# Altium footprint library Battery circuit PCB.PcbLib: 27 footprints (part 1 of 2)
Each footprint in its own frame and in the unit in brackets; x right, y up, seen from the top. Pads: shape width x height; smd on the part's side, far side on the other; paste and mask are expansions set on the pad; w line width, h text height; cw(c..) or ccw(c..) is an arc to the next point about the centre after c.
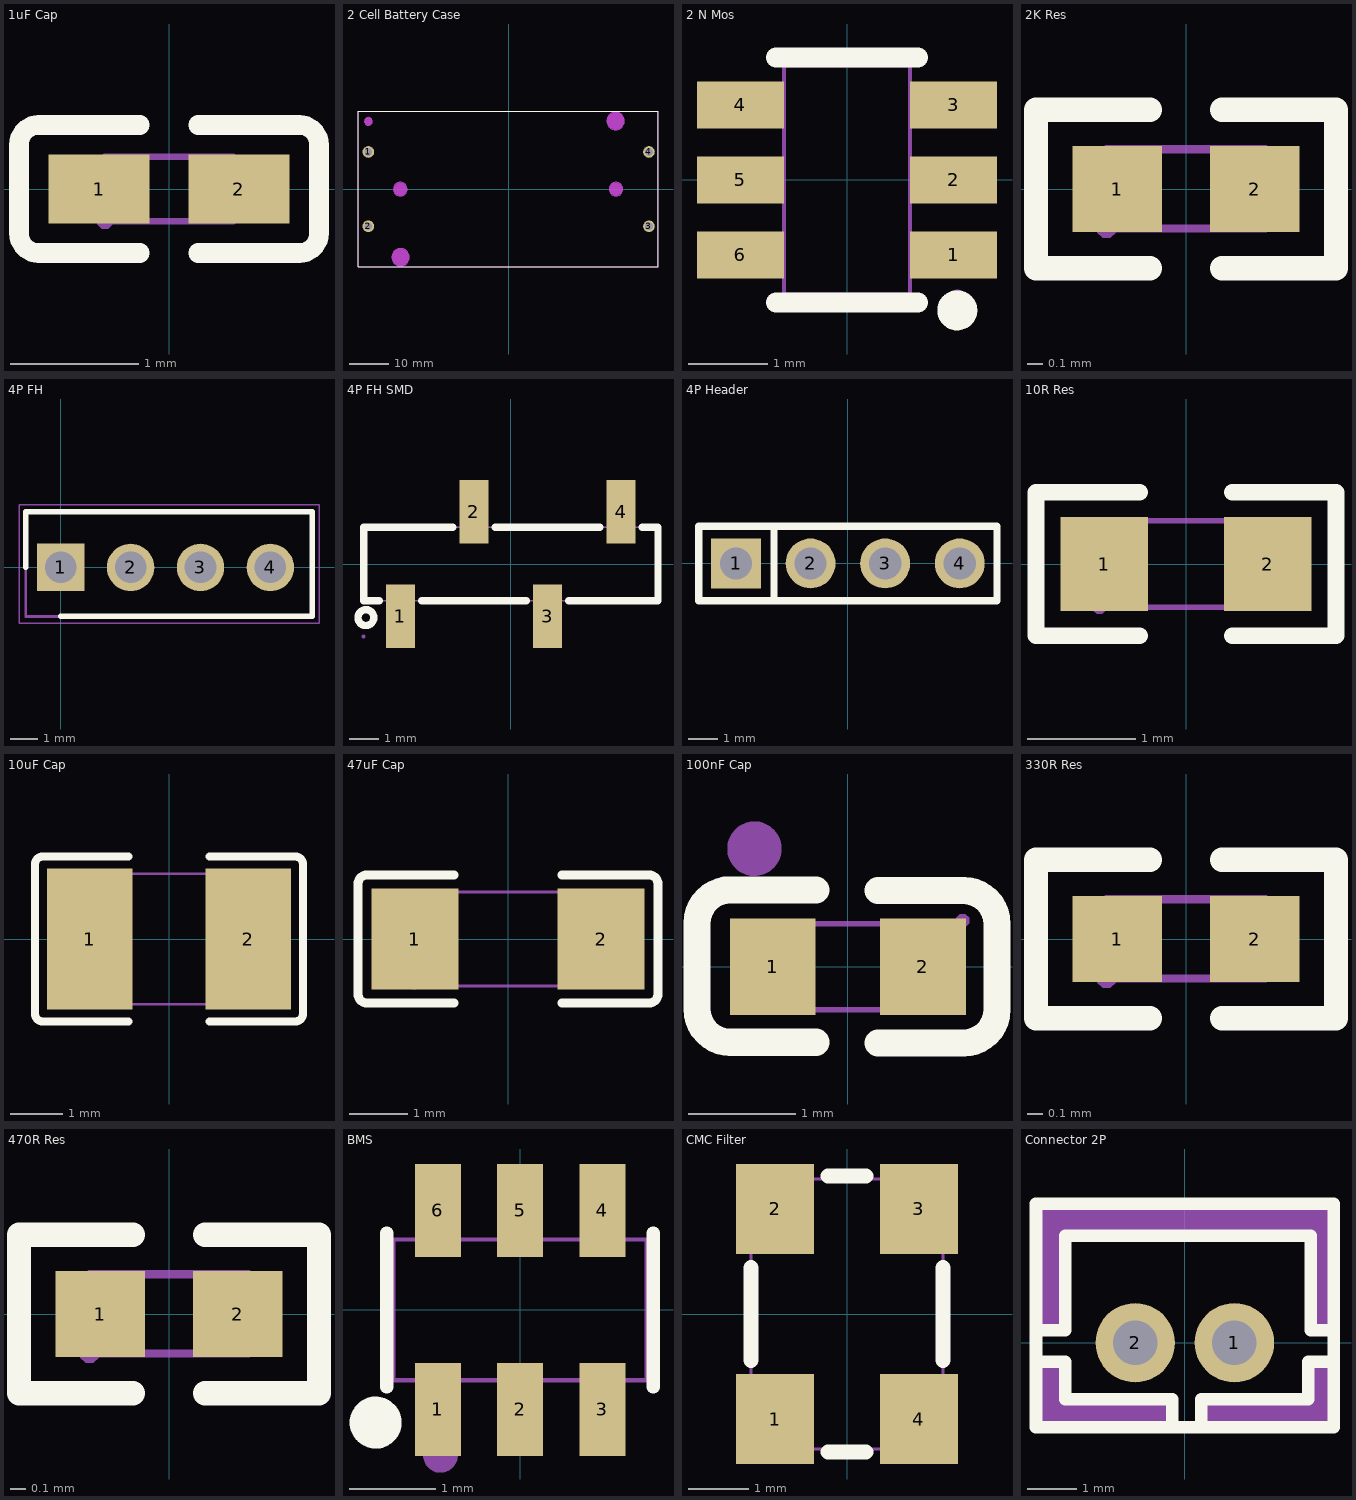
[diagram p0: the footprints below, top view; thin cyan lines are the x and y axes]

## 1uF Cap [mm]
pads (2):
  rect 0.79x0.54 smd paste-100 mask+0.051: 1(-0.545,0) 2(0.545,0)
Top Overlay:
  lines w0.152: -0.226,-0.499 -1.016,-0.499 cw(c-1.016,-0.346) -1.169,-0.346 -1.169,0.346 cw(c-1.016,0.346) -1.016,0.499 -0.226,0.499 ; 0.226,-0.499 1.016,-0.499 ccw(c1.016,-0.346) 1.169,-0.346 1.169,0.346 ccw(c1.016,0.346) 1.016,0.499 0.226,0.499
Top Paste:
  region: 0.78,0.225 0.78,-0.225 0.73,-0.275 0.25,-0.275 0.18,-0.225 0.18,0.225 0.25,0.275 0.73,0.275
  region: -0.18,0.225 -0.18,-0.225 -0.25,-0.275 -0.73,-0.275 -0.78,-0.225 -0.78,0.225 -0.73,0.275 -0.25,0.275
Mechanical 15:
  region: 0.5,-0.25 0.5,0.25 0.25,0.25 0.25,-0.25
  region: -0.5,-0.25 -0.5,0.25 -0.25,0.25 -0.25,-0.25
  region: -0.44,-0.25 -0.44,-0.225 -0.475,-0.19 -0.525,-0.19 -0.56,-0.225 -0.56,-0.25 -0.56,-0.275 -0.525,-0.31 -0.475,-0.31 -0.44,-0.275
  lines w0.051: -0.5,-0.25 0.5,-0.25 0.5,0.25 -0.5,0.25 -0.5,-0.25
3D body "Cap 1uF.step": height 0.25, standoff -0.25, extent -0.5,-0.296 0.5,0.254

## 2 Cell Battery Case [mm]
pads (4):
  round 3 hole 2: 1(-36.037,9.55) 2(-36.037,-9.55) 3(36.037,-9.55) 4(36.037,9.55)
Top Overlay:
  lines w0.254: -38.637,-19.95 38.363,-19.95 38.363,19.95 -38.637,19.95 -38.637,-19.95
Keep-Out Layer:
  drawing of 5 lines, arcs and shapes, not listed
Mechanical 1:
  circle w0.025: c-36.037,17.4 r1
  circle w0.025: c-27.737,-17.5 r2.25
  circle w0.025: c27.462,17.5 r2.25
  circle w0.025: c-27.838,0 r1.75
  circle w0.025: c27.562,0 r1.75
Mechanical 6:
  circle w0.9: c-36.037,17.4 r0.45
  circle w1.6: c-27.838,0 r0.8
  circle w1.6: c27.562,0 r0.8
  circle w2.15: c27.462,17.5 r1.075
  circle w2.15: c-27.738,-17.5 r1.075
Mechanical 15:
  region: -38.577,19.95 -38.577,19.975 -38.612,20.01 -38.662,20.01 -38.697,19.975 -38.697,19.95 -38.697,19.925 -38.662,19.89 -38.613,19.89 -38.577,19.925
  region: -36.187,-9.05 -35.887,-9.05 -35.887,-10.05 -36.187,-10.05
  region: -36.187,10.05 -35.887,10.05 -35.887,9.05 -36.187,9.05
  region: 35.887,10.05 36.187,10.05 36.187,9.05 35.887,9.05
  region: 35.887,-9.05 36.187,-9.05 36.187,-10.05 35.887,-10.05
  lines w0.051: -38.637,-19.95 38.362,-19.95 38.362,19.95 -38.637,19.95 -38.637,-19.95
Multi-Layer keep-out:
  circle w0.254: c-36.037,17.4 r1
  circle w0.254: c-27.737,-17.5 r2.25
  circle w0.254: c27.462,17.5 r2.25
  circle w0.254: c-27.838,0 r1.75
  circle w0.254: c27.562,0 r1.75
3D body "Hold_18650-1p_smd_WITH_BAT.step": height 17.97, standoff -2.79, extent -42.712,-21.068 43.728,-0.268
3D body "Hold_18650-1p_smd_WITH_BAT.step": height 17.97, standoff -2.79, extent -42.712,0.522 43.728,21.322

## 2 N Mos [mm]
pads (6):
  rect 1.1x0.6 smd paste+0 mask+0.051: 1(1.35,-0.95) 2(1.35,0) 3(1.35,0.95) 4(-1.35,0.95) 5(-1.35,0) 6(-1.35,-0.95)
Top Overlay:
  circle w0.254: c1.397,-1.651 r0.127
  lines w0.254: -0.9,-1.55 0.9,-1.55 ; -0.9,1.55 0.9,1.55
Mechanical 6:
  circle w0.2: c1.4,-0.95 r0.1
Mechanical 15:
  region: 1.46,-1.45 1.46,-1.425 1.425,-1.39 1.375,-1.39 1.34,-1.425 1.34,-1.45 1.34,-1.475 1.375,-1.51 1.425,-1.51 1.46,-1.475
  region: -0.925,-1.165 -0.925,-0.735 -1.4,-0.735 -1.4,-1.165
  region: -0.925,-0.215 -0.925,0.215 -1.4,0.215 -1.4,-0.215
  region: -0.925,0.735 -0.925,1.165 -1.4,1.165 -1.4,0.735
  region: -0.935,0.735 -0.935,1.165 -0.79,1.165 -0.79,0.735
  region: 0.925,0.735 0.925,1.165 1.4,1.165 1.4,0.735
  region: 0.925,-0.215 0.925,0.215 1.4,0.215 1.4,-0.215
  region: 0.925,-1.165 0.925,-0.735 1.4,-0.735 1.4,-1.165
  region: -0.935,-0.215 -0.935,0.215 -0.79,0.215 -0.79,-0.215
  region: -0.935,-1.165 -0.935,-0.735 -0.79,-0.735 -0.79,-1.165
  region: 0.935,-0.735 0.935,-1.165 0.79,-1.165 0.79,-0.735
  region: 0.935,0.215 0.935,-0.215 0.79,-0.215 0.79,0.215
  region: 0.935,1.165 0.935,0.735 0.79,0.735 0.79,1.165
  lines w0.051: -0.8,-1.45 -0.8,1.45 0.8,1.45 0.8,-1.45 -0.8,-1.45
3D body "2N Mos.STEP": height 1.45, standoff 0, extent -1.273,-1.45 1.527,1.45

## 2K Res [mm]
pads (2):
  rect 0.566x0.54 smd paste-100 mask+0.051: 1(-0.433,0) 2(0.433,0)
Top Overlay:
  lines w0.152: -0.226,-0.499 -0.944,-0.499 -0.944,0.499 -0.226,0.499 ; 0.226,-0.499 0.944,-0.499 0.944,0.499 0.226,0.499
Top Paste:
  region: -0.135,-0.23 -0.135,0.23 -0.175,0.27 -0.676,0.27 -0.716,0.23 -0.716,-0.23 -0.676,-0.27 -0.175,-0.27
  region: 0.135,-0.23 0.135,0.23 0.175,0.27 0.676,0.27 0.716,0.23 0.716,-0.23 0.676,-0.27 0.175,-0.27
Mechanical 15:
  region: -0.249,0.25 -0.249,-0.25 -0.499,-0.25 -0.499,0.25
  region: 0.251,-0.25 0.251,0.25 0.501,0.25 0.501,-0.25
  region: -0.44,-0.25 -0.441,-0.226 -0.476,-0.192 -0.524,-0.192 -0.559,-0.226 -0.56,-0.25 -0.559,-0.274 -0.524,-0.308 -0.476,-0.308 -0.441,-0.274
  lines w0.051: -0.5,-0.25 0.5,-0.25 0.5,0.25 -0.5,0.25 -0.5,-0.25
3D body "Res 2K.step": height 0.4, standoff 0, extent -0.5,-0.254 0.5,0.246

## 4P FH [mm]
pads (4):
  rect 1.725x1.725 / inner round 1.725 / far side rect 1.725x1.725 hole 1.15: 1(0,0)
  round 1.725 hole 1.15: 2(2.54,0) 3(5.08,0) 4(7.62,0)
Top Overlay:
  lines w0.2: -1.27,0 -1.27,2.03 9.14,2.03 9.14,-1.78 0,-1.78
Mechanical 15:
  lines w0.1: -1.27,-1.78 -1.27,2.03 9.14,2.03 9.14,-1.78 -1.27,-1.78
Mechanical 20:
  lines w0.05: -1.52,-2.03 -1.52,2.28 9.39,2.28 9.39,-2.03 -1.52,-2.03
3D body "1x4 Male Pin Header.STEP": height 10.54, standoff -3, extent -1.275,-1.25 8.89,1.25

## 4P FH SMD [mm]
pads (4):
  rect 1x2.2 smd: 1(-3.81,-1.8) 2(-1.27,1.8) 3(1.27,-1.8) 4(3.81,1.8)
Top Overlay:
  circle w0.254: c-5,-1.85 r0.273
  lines w0.254: -4.541,-1.27 -5.08,-1.27 -5.08,1.27 -2.001,1.27 ; -3.079,-1.27 0.539,-1.27 ; -0.539,1.27 3.079,1.27 ; 2.001,-1.27 5.08,-1.27 5.08,1.27 4.541,1.27
Mechanical 15:
  region: -5.02,-2.5 -5.021,-2.476 -5.055,-2.441 -5.104,-2.441 -5.139,-2.475 -5.14,-2.5 -5.139,-2.524 -5.105,-2.559 -5.056,-2.559 -5.021,-2.524
  region: 3.49,1.04 4.13,1.04 4.13,2.54 3.49,2.54
  region: 0.95,-2.54 1.59,-2.54 1.59,-1.04 0.95,-1.04
  region: -1.59,1.04 -0.95,1.04 -0.95,2.54 -1.59,2.54
  region: -4.13,-2.54 -3.49,-2.54 -3.49,-1.04 -4.13,-1.04
  lines w0.051: -5.08,-1.27 -5.08,1.27 5.08,1.27 5.08,-1.27 -5.08,-1.27
3D body "4P FH SMD.step": height 12.19, standoff -0.46, extent -9.449,-3.785 9.347,3.581

## 4P Header [mm]
pads (4):
  rect 1.7x1.7 hole 1.1 paste-2539.97 mask+0.051: 1(-3.81,0)
  round 1.7 hole 1.1 paste-2539.97 mask+0.051: 2(-1.27,0) 3(1.27,0) 4(3.81,0)
Top Overlay:
  lines w0.254: -2.516,-1.27 -2.516,1.27 ; -2.516,1.27 -5.08,1.27 -5.08,-1.27 5.08,-1.27 5.08,1.27 -2.516,1.27
Mechanical 15:
  region: 3.49,0.32 4.13,0.32 4.13,-0.32 3.49,-0.32
  region: 0.95,0.32 1.59,0.32 1.59,-0.32 0.95,-0.32
  region: -1.59,0.32 -0.95,0.32 -0.95,-0.32 -1.59,-0.32
  region: -4.13,0.32 -3.49,0.32 -3.49,-0.32 -4.13,-0.32
  region: -5.02,-1.25 -5.02,-1.225 -5.055,-1.19 -5.105,-1.19 -5.14,-1.225 -5.14,-1.25 -5.14,-1.275 -5.105,-1.31 -5.055,-1.31 -5.02,-1.275
  lines w0.051: -5.08,-1.25 5.08,-1.25 5.08,1.25 -5.08,1.25 -5.08,-1.25
3D body "1x4 Male Pin Header.STEP": height 10.54, standoff -3, extent -5.006,-1.255 5.159,1.245

## 10R Res [mm]
pads (2):
  rect 0.806x0.864 smd paste-100 mask+0.051: 1(-0.753,0) 2(0.753,0)
Top Overlay:
  lines w0.152: -0.426,-0.661 -1.385,-0.661 -1.385,0.661 -0.426,0.661 ; 0.426,-0.661 1.385,-0.661 1.385,0.661 0.426,0.661
Top Paste:
  region: -1.195,-0.45 -0.395,-0.45 -0.345,-0.4 -0.345,-0.172 -0.715,-0.172 -0.715,0.158 -0.345,0.158 -0.345,0.4 -0.395,0.45 -1.195,0.45 -1.245,0.4 -1.245,-0.4
  region: 1.195,0.45 0.395,0.45 0.345,0.4 0.345,0.172 0.715,0.172 0.715,-0.158 0.345,-0.158 0.345,-0.4 0.395,-0.45 1.195,-0.45 1.245,-0.4 1.245,0.4
Mechanical 15:
  region: 0.8,-0.4 0.8,0.4 0.5,0.4 0.5,-0.4
  region: -0.8,-0.4 -0.8,0.4 -0.5,0.4 -0.5,-0.4
  region: -0.74,-0.4 -0.74,-0.375 -0.775,-0.34 -0.825,-0.34 -0.86,-0.375 -0.86,-0.4 -0.86,-0.425 -0.825,-0.46 -0.775,-0.46 -0.74,-0.425
  lines w0.051: -0.8,-0.4 0.8,-0.4 0.8,0.4 -0.8,0.4 -0.8,-0.4
3D body "Res 603.STEP": height 0.55, standoff 0, extent -0.8,-0.4 0.8,0.4

## 10uF Cap [mm]
pads (2):
  rect 1.635x2.7 smd paste-100 mask+0.051: 1(-1.517,0) 2(1.517,0)
Top Overlay:
  lines w0.152: -0.776,-1.579 -2.411,-1.579 cw(c-2.411,-1.426) -2.564,-1.426 -2.564,1.426 cw(c-2.411,1.426) -2.411,1.579 -0.776,1.579 ; 0.776,-1.579 2.411,-1.579 ccw(c2.411,-1.426) 2.564,-1.426 2.564,1.426 ccw(c2.411,1.426) 2.411,1.579 0.776,1.579
Top Paste:
  region: 0.7,-1.25 0.7,-0.559 0.8,-0.459 1.156,-0.459 1.256,-0.359 1.256,0.359 1.156,0.459 0.8,0.459 0.7,0.559 0.7,1.25 0.8,1.35 2.235,1.35 2.335,1.25 2.335,-1.25 2.235,-1.35 0.8,-1.35
  region: -0.7,-1.25 -0.7,-0.559 -0.8,-0.459 -1.156,-0.459 -1.256,-0.359 -1.256,0.359 -1.156,0.459 -0.8,0.459 -0.7,0.559 -0.7,1.25 -0.8,1.35 -2.235,1.35 -2.335,1.25 -2.335,-1.25 -2.235,-1.35 -0.8,-1.35
Mechanical 15:
  region: -1.54,-1.25 -1.541,-1.226 -1.576,-1.192 -1.624,-1.192 -1.659,-1.226 -1.66,-1.25 -1.659,-1.274 -1.624,-1.308 -1.576,-1.308 -1.541,-1.274
  region: -1.6,-1.25 -1.6,1.25 -1,1.25 -1,-1.25
  region: 1.6,-1.25 1.6,1.25 1,1.25 1,-1.25
  lines w0.051: -1.6,-1.25 -1.6,1.25 1.6,1.25 1.6,-1.25 -1.6,-1.25
3D body "Cap 1210.STEP": height 1.5, standoff 0, extent -1.649,-1.305 1.751,1.295

## 47uF Cap [mm]
pads (2):
  rect 1.485x1.728 smd paste-100 mask+0.051: 1(-1.593,0) 2(1.593,0)
Top Overlay:
  lines w0.152: -0.926,-1.093 -2.411,-1.093 cw(c-2.411,-0.94) -2.564,-0.94 -2.564,0.94 cw(c-2.411,0.94) -2.411,1.093 -0.926,1.093 ; 0.926,-1.093 2.411,-1.093 ccw(c2.411,-0.94) 2.564,-0.94 2.564,0.94 ccw(c2.411,0.94) 2.411,1.093 0.926,1.093
Top Paste:
  region: 0.85,-0.764 0.85,-0.394 0.95,-0.294 1.255,-0.294 1.355,-0.194 1.355,0.194 1.255,0.294 0.95,0.294 0.85,0.394 0.85,0.764 0.95,0.864 2.235,0.864 2.335,0.764 2.335,-0.764 2.235,-0.864 0.95,-0.864
  region: -0.85,-0.764 -0.85,-0.394 -0.95,-0.294 -1.255,-0.294 -1.355,-0.194 -1.355,0.194 -1.255,0.294 -0.95,0.294 -0.85,0.394 -0.85,0.764 -0.95,0.864 -2.235,0.864 -2.335,0.764 -2.335,-0.764 -2.235,-0.864 -0.95,-0.864
Mechanical 15:
  region: -1.54,-0.8 -1.541,-0.776 -1.576,-0.742 -1.624,-0.742 -1.659,-0.776 -1.66,-0.8 -1.659,-0.824 -1.624,-0.858 -1.576,-0.858 -1.541,-0.824
  region: -1.6,-0.8 -1.6,0.8 -1.1,0.8 -1.1,-0.8
  region: 1.6,-0.8 1.6,0.8 1.1,0.8 1.1,-0.8
  lines w0.051: -1.6,-0.8 -1.6,0.8 1.6,0.8 1.6,-0.8 -1.6,-0.8
3D body "Cap 1206.step": height 0.81, standoff 0.01, extent -1.625,-0.8 1.575,0.8

## 100nF Cap [mm]
pads (2):
  rect 0.8x0.9 smd paste+0 mask+0.051: 1(-0.7,0) 2(0.7,0)
Top Overlay:
  lines w0.254: -0.296,-0.704 -1.096,-0.704 cw(c-1.096,-0.394) -1.406,-0.394 -1.405,0.406 cw(c-1.096,0.406) -1.096,0.715 -0.296,0.715 ; 0.28,-0.71 1.08,-0.71 ccw(c1.08,-0.4) 1.39,-0.4 1.39,0.4 ccw(c1.08,0.4) 1.08,0.71 0.28,0.71
Mechanical 6:
  circle w0.254: c-0.87,1.1 r0.127
Mechanical 15:
  region: 1.13,0.43 1.13,0.455 1.095,0.49 1.045,0.49 1.01,0.455 1.01,0.43 1.01,0.405 1.045,0.37 1.095,0.37 1.13,0.405
  region: -0.8,-0.4 -0.8,0.4 -0.5,0.4 -0.5,-0.4
  region: 0.8,-0.4 0.8,0.4 0.5,0.4 0.5,-0.4
  lines w0.051: -0.8,-0.4 -0.8,0.4 0.8,0.4 0.8,-0.4 -0.8,-0.4
3D body "100nF Cap.STEP": height 0.9, standoff 0, extent -0.8,-0.4 0.8,0.4

## 330R Res [mm]
pads (2):
  rect 0.566x0.54 smd paste-100 mask+0.051: 1(-0.433,0) 2(0.433,0)
Top Overlay:
  lines w0.152: -0.226,-0.499 -0.944,-0.499 -0.944,0.499 -0.226,0.499 ; 0.226,-0.499 0.944,-0.499 0.944,0.499 0.226,0.499
Top Paste:
  region: 0.135,-0.23 0.135,0.23 0.175,0.27 0.676,0.27 0.716,0.23 0.716,-0.23 0.676,-0.27 0.175,-0.27
  region: -0.135,-0.23 -0.135,0.23 -0.175,0.27 -0.676,0.27 -0.716,0.23 -0.716,-0.23 -0.676,-0.27 -0.175,-0.27
Mechanical 15:
  region: -0.44,-0.25 -0.441,-0.226 -0.476,-0.192 -0.524,-0.192 -0.559,-0.226 -0.56,-0.25 -0.559,-0.274 -0.524,-0.308 -0.476,-0.308 -0.441,-0.274
  region: 0.251,-0.25 0.251,0.25 0.501,0.25 0.501,-0.25
  region: -0.249,0.25 -0.249,-0.25 -0.499,-0.25 -0.499,0.25
  lines w0.051: -0.5,-0.25 -0.5,0.25 0.5,0.25 0.5,-0.25 -0.5,-0.25
3D body "Res 402.STEP": height 0.4, standoff 0, extent -0.525,-0.225 0.475,0.275

## 470R Res [mm]
pads (2):
  rect 0.566x0.54 smd paste-100 mask+0.051: 1(-0.433,0) 2(0.433,0)
Top Overlay:
  lines w0.152: -0.226,-0.499 -0.944,-0.499 -0.944,0.499 -0.226,0.499 ; 0.226,-0.499 0.944,-0.499 0.944,0.499 0.226,0.499
Top Paste:
  region: -0.135,-0.23 -0.135,0.23 -0.175,0.27 -0.676,0.27 -0.716,0.23 -0.716,-0.23 -0.676,-0.27 -0.175,-0.27
  region: 0.135,-0.23 0.135,0.23 0.175,0.27 0.676,0.27 0.716,0.23 0.716,-0.23 0.676,-0.27 0.175,-0.27
Mechanical 15:
  region: -0.249,0.25 -0.249,-0.25 -0.499,-0.25 -0.499,0.25
  region: 0.251,-0.25 0.251,0.25 0.501,0.25 0.501,-0.25
  region: -0.44,-0.25 -0.441,-0.226 -0.476,-0.192 -0.524,-0.192 -0.559,-0.226 -0.56,-0.25 -0.559,-0.274 -0.524,-0.308 -0.476,-0.308 -0.441,-0.274
  lines w0.051: -0.5,-0.25 0.5,-0.25 0.5,0.25 -0.5,0.25 -0.5,-0.25
3D body "Res 2K.step": height 0.4, standoff 0, extent -0.5,-0.25 0.5,0.25

## BMS [mm]
pads (6):
  rect 0.532x1.072 smd paste+0 mask+0.051: 1(-0.95,-1.149) 2(0,-1.149) 3(0.95,-1.149) 4(0.95,1.149) 5(0,1.149) 6(-0.95,1.149)
Top Overlay:
  circle w0.3: c-1.668,-1.301 r0.15
  lines w0.152: -1.539,-0.889 -1.539,0.889 ; 1.539,-0.889 1.539,0.889
Mechanical 6:
  circle w0.2: c-0.92,-1.68 r0.1
Mechanical 15:
  region: -1.165,0.935 -0.735,0.935 -0.735,0.803 -1.165,0.803
  region: -1.165,0.925 -0.735,0.925 -0.735,1.4 -1.165,1.4
  region: -0.215,0.935 0.215,0.935 0.215,0.803 -0.215,0.803
  region: -0.215,0.925 0.215,0.925 0.215,1.4 -0.215,1.4
  region: 0.735,0.935 1.165,0.935 1.165,0.803 0.735,0.803
  region: 0.735,0.925 1.165,0.925 1.165,1.4 0.735,1.4
  region: 0.735,-0.803 1.165,-0.803 1.165,-0.935 0.735,-0.935
  region: 0.735,-0.925 1.165,-0.925 1.165,-1.4 0.735,-1.4
  region: -0.215,-0.803 0.215,-0.803 0.215,-0.935 -0.215,-0.935
  region: -0.215,-0.925 0.215,-0.925 0.215,-1.4 -0.215,-1.4
  region: -1.165,-0.803 -0.735,-0.803 -0.735,-0.935 -1.165,-0.935
  region: -1.165,-0.925 -0.735,-0.925 -0.735,-1.4 -1.165,-1.4
  region: -1.403,-1.4 -1.404,-1.376 -1.439,-1.341 -1.488,-1.341 -1.522,-1.376 -1.523,-1.4 -1.522,-1.425 -1.487,-1.459 -1.438,-1.459 -1.404,-1.424
  lines w0.051: -1.463,-0.813 -1.463,0.813 1.463,0.813 1.463,-0.813 -1.463,-0.813
3D body "BMS.stp": height 1.35, standoff 0, extent -1.45,-1.375 1.45,1.375

## CMC Filter [mm]
pads (4):
  rect 1.3x1.5 smd paste+0 mask+0.051: 1(-1.2,-1.75) 2(-1.2,1.75) 3(1.2,1.75) 4(1.2,-1.75)
Top Overlay:
  lines w0.254: -1.6,-0.769 -1.6,0.769 ; -0.319,-2.3 0.319,-2.3 ; -0.319,2.3 0.319,2.3 ; 1.6,-0.769 1.6,0.769
Mechanical 15:
  region: -1.54,-2.25 -1.54,-2.225 -1.575,-2.191 -1.624,-2.191 -1.66,-2.225 -1.66,-2.25 -1.66,-2.274 -1.625,-2.309 -1.575,-2.309 -1.54,-2.275
  region: 0.6,-1.05 1.6,-1.05 1.6,-2.25 0.6,-2.25
  region: -1.6,-1.05 -0.6,-1.05 -0.6,-2.25 -1.6,-2.25
  region: -1.6,2.25 -0.6,2.25 -0.6,1.05 -1.6,1.05
  region: 0.6,2.25 1.6,2.25 1.6,1.05 0.6,1.05
  lines w0.051: -1.6,-2.25 1.6,-2.25 1.6,2.25 -1.6,2.25 -1.6,-2.25
3D body "CMC.stp": height 2.8, standoff 0, extent -1.625,-2.225 1.575,2.275

## Connector 2P [mm]
pads (2):
  round 1.6 hole 0.9: 1(1,0) 2(-1,0)
Top Overlay:
  lines w0.254: -2.921,-0.381 -2.413,-0.381 -2.413,-1.143 -0.254,-1.143 -0.254,-1.651 ; -2.921,0.254 -2.413,0.254 -2.413,2.159 2.54,2.159 2.54,0.254 2.921,0.254 ; 0.333,-1.651 0.333,-1.143 2.492,-1.143 2.492,-0.381 3,-0.381 ; -3,-1.7 3,-1.7 3,2.8 -3,2.8 -3,-1.7
Mechanical 6:
  region: 2.921,0.254 2.54,0.254 2.54,2.159 -2.413,2.159 -2.413,0.254 -2.921,0.254 -2.921,2.794 2.921,2.794
  region: 3,-0.381 2.492,-0.381 2.492,-1.143 0.333,-1.143 0.333,-1.651 3.048,-1.651
  region: -0.254,-1.143 -0.254,-1.651 -2.921,-1.651 -2.921,-0.381 -2.413,-0.381 -2.413,-1.143
Mechanical 15:
  region: 3.01,2.8 3.009,2.825 2.974,2.859 2.925,2.859 2.891,2.825 2.89,2.8 2.891,2.776 2.925,2.741 2.974,2.741 3.009,2.776
  region: 1.25,-0.25 0.75,-0.25 0.75,0.25 1.25,0.25
  region: -0.75,-0.25 -1.25,-0.25 -1.25,0.25 -0.75,0.25
  lines w0.051: -2.95,-1.7 -2.95,2.8 2.95,2.8 2.95,-1.7 -2.95,-1.7
3D body "JST 2Pin.stp": height 6, standoff -3.4, extent -2.95,-1.573 2.95,2.927